# EAGLE library part P82C150 (library micro-philips)
CAN BUS I/O DEVICE, SLIO with digital and analog port functions
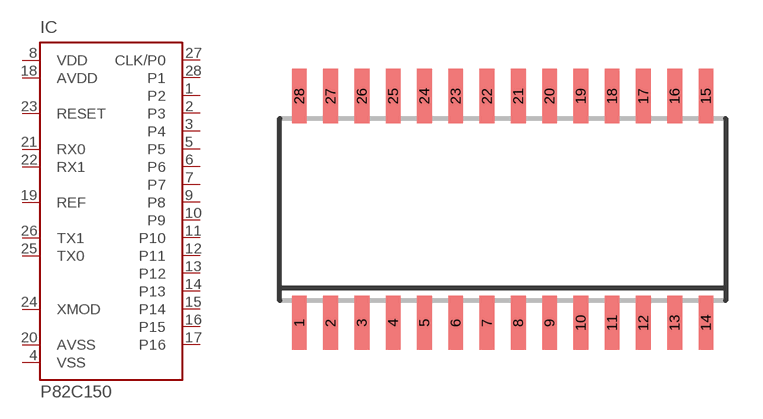
[diagram p7: symbol with the pads of SO28; footprint SO28]

Designator prefix IC

## P82C150 (OC_FARNELL: unknown; OC_NEWARK: unknown)  [SO28]
1  P2
2  P3
3  P4
4  VSS  pwr
5  P5
6  P6
7  P7
8  VDD  pwr
9  P8
10  P9
11  P10
12  P11
13  P12
14  P13
15  P14
16  P15
17  P16
18  AVDD  in
19  REF  out
20  AVSS  in
21  RX0  in
22  RX1  in
23  RESET  in
24  XMOD  in
25  TX0  out
26  TX1  out
27  CLK/P0
28  P1

## Footprint SO28 (pad centres in mm)
Small Outline Package 7.6 x 18.3 mm
smd 0.6 x 2.2: 1 -8.255,-4.6; 2 -6.985,-4.6; 3 -5.715,-4.6; 4 -4.445,-4.6; 5 -3.175,-4.6; 6 -1.905,-4.6; 7 -0.635,-4.6; 8 0.635,-4.6; 9 1.905,-4.6; 10 3.175,-4.6; 11 4.445,-4.6; 12 5.715,-4.6; 13 6.985,-4.6; 14 8.255,-4.6; 15 8.255,4.6; 16 6.985,4.6; 17 5.715,4.6; 18 4.445,4.6; 19 3.175,4.6; 20 1.905,4.6; 21 0.635,4.6; 22 -0.635,4.6; 23 -1.905,4.6; 24 -3.175,4.6; 25 -4.445,4.6; 26 -5.715,4.6; 27 -6.985,4.6; 28 -8.255,4.6